# Altium schematic symbol library PowerSupply.SCHLIB: 15 symbols
Pins are listed as number, name and electrical type; pins without a type are passive.

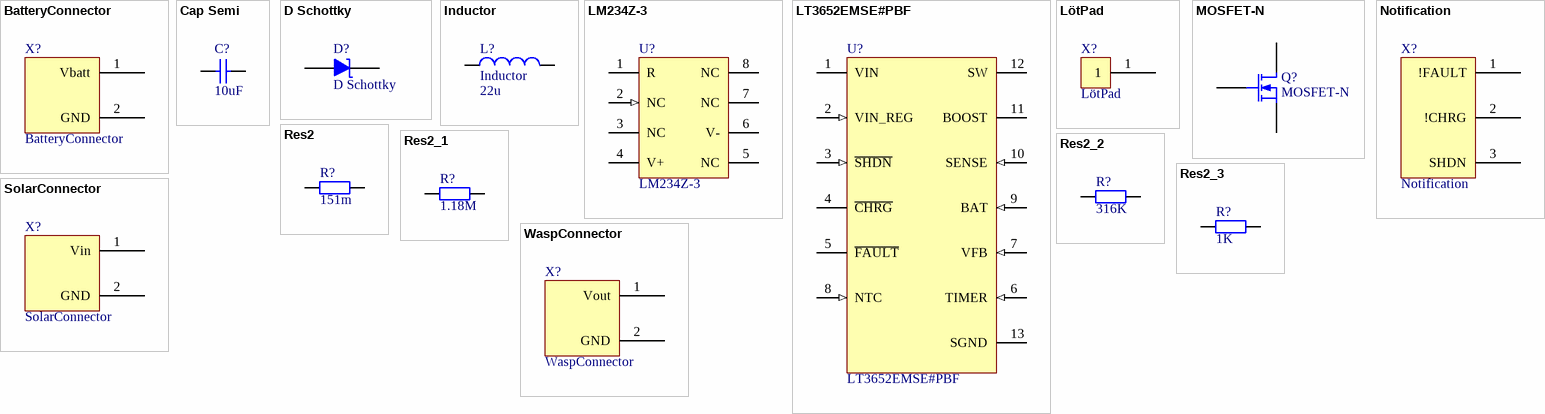
[diagram p0: symbols BatteryConnector to WaspConnector]

## BatteryConnector
designator X?
Connector; Supplier 1: Farnell; Supplier 2: Digi-Key; Supplier Part Number 1: 3705262, 3705535; Supplier Part Number 2: 277-1062-ND, 277-1150-ND
footprint Battery_Connector
pins: 1 Vbatt, 2 GND

## Cap Semi
designator C?, comment 10uF
Capacitor; Published: 8-Jun-2000; LatestRevisionDate: 29-May-2009; LatestRevisionNote: IPC-7351 Footprint Added.; PackageReference: C1206; Publisher: Altium Limited; PackageDescription: Chip Capacitor; Value: 10uF; Supplier 1: Farnell; Supplier 2: Digi-Key; Supplier Part Number 1: 1828859; Supplier Part Number 2: 490-1891-1-ND
footprint C1206 (Chip Capacitor, Body 3.2x1.6mm, IPC High Density)
footprint 0402 (Chip Capacitor, Body 1.0x0.5mm, IPC High Density)
footprint C2512 (Chip Capacitor, Body 2.54x1.27mm, IPC High Density)
footprint 1608[0603] (Chip Capacitor, Body 1.6x0.8mm, IPC High Density)
footprint C1210 (Chip Capacitor, Body 3.2x2.5mm, IPC High Density)
simulation model CAP (Semiconductor Capacitor)
signal-integrity model Cap Semi
pins: 1, 2

## D Schottky
designator D?
Schottky Diode; Published: 8-Jun-2000; LatestRevisionDate: 17-Jul-2002; LatestRevisionNote: Re-released for DXP Platform.; PackageReference: SMB; Publisher: Altium Limited; PackageDescription: DO-214-AA/SMB; 2 C-Bend Leads; Body 5.3 x 3.6 mm, inc. leads (LxW); Code_JEDEC: DO-214-AA; Supplier Part Number 2: B340LB-FDICT-ND; Supplier 2: Digi-Key; Supplier Part Number 1: 1843684; Supplier 1: Farnell
footprint SMB (DO-214-AA/SMB; 2 C-Bend Leads; Body 5.3 x 3.6 mm, inc. leads (LxW))
simulation model SKYDIODE (Diode)
signal-integrity model D Schottky
pins: 1 A, 2 K

## Inductor
designator L?  value 22u
Supplier 1: Farnell; Supplier 2: Digi-Key; Supplier Part Number 2: 478-7123-1-ND; Supplier Part Number 1: 2373880
footprint 0402-A (Chip Inductor, Body 1.0x0.5mm, IPC High Density)
footprint INDC1608L (Chip Inductor, Body 1.6x0.8mm, IPC High Density)
footprint 2029 (Chip Inductor, Body 2.0x1.2mm, IPC High Density)
footprint 0603 (Chip Inductor, Body 0.6x0.3mm, IPC High Density)
footprint INDC3216 (Chip Inductor, Body 3.2x1.6mm, IPC High Density)
footprint INDC4532 (Chip Inductor, Body 4.5x3.2mm, IPC High Density)
simulation model INDUCTOR (Inductor)
signal-integrity model Inductor
footprint LMX131J
pins: 1, 2

## LM234Z-3
designator U?
3-Terminal Adjustable Current Source, 3-pin TO-92; Manufacturer: National Semiconductor; PackageTopMarking: NSXYTT*LM234*Z-3; PowerWise: N; CompType: MiscPower; High-Reliability: Y; DatasheetVersion: Mar-2005; PackageVersion: revG, Sep-2000; PackageReference: Z03A; PackageDescription: TO-92, Molded, 3 Lead; PartNumber: LM234Z-3; RoHS: N; PinCount: 3; Code_JEDEC: TO-226-AA; ComponentLink1Description: Manufacturer URL; ComponentLink1URL: http://www.national.com/; ComponentLink2Description: LM234 Datasheet; ComponentLink2URL: http://www.national.com/ds/LM/LM234.pdf; ComponentLink3Description: LM234 Web Page; ComponentLink3URL: http://www.national.com/pf/LM/LM234.html; ComponentLink4Description: Z03A Package Page; ComponentLink4URL: http://www.national.com/packaging/folders/z03a.html; Supplier part Number 1: 1467822; Supplier 1: Farnell; Supplier 2: Digikey; Supplier Part Number 2: 497-1549-2-ND; Value: LM234Z-3
footprint Z03A (TO, Flat Index; 3 In-Line, Axial Leads; Body Dia. 5mm; Leads 0.55 x 0.50 mm (max))
footprint SO-8
pins: 1 R, 2 NC (in), 3 NC, 4 V+, 5 NC, 6 V-, 7 NC, 8 NC

## LT3652EMSE#PBF
designator U?
Battery Charger for Solar Power; Manufacturer: Linear Technology; Number of Outputs: 1; Vin Max(V): 32; Vin Min(V): 4.95; DatasheetVersion: Rev. D; PackageVersion: Rev. G, 05/2013; PackageReference: MSE-12-EDP; PackageDescription: 12-Pin Plastic MSOP, Exposed Die Pad, Body 4.039 x 3 mm, Pitch 0.65 mm; Supplier 1: Farnell; Supplier Part Number 1: 1839126; Supplier 2: Digi-Key; Supplier Part Number 2: LT3652EMSE#PBF-ND; Energy Source: Solar; RoHS: TRUE; Topology: Battery Charger; Mounting Technology: Surface Mount; PartNumber: LT3652EMSE#PBF; ComponentLink1Description: Manufacturer URL; ComponentLink1URL: http://www.linear.com/; ComponentLink2Description: Datasheet; ComponentLink2URL: http://cds.linear.com/docs/en/datasheet/3652fd.pdf; ComponentLink3Description: Package Specification; ComponentLink3URL: http://cds.linear.com/docs/en/packaging/05081666_G_MSE12.pdf; Value: LT3652EMSE#PBF
footprint LT-MSE-12-EDP_N (SOP, 12-Leads, Body 4.1x3.1mm, Pitch 0.65mm, Thermal Pad 2.95x1.76mm, IPC Medium Density)
footprint LT-MSE-12-EDP_L (SOP, 12-Leads, Body 4.1x3.1mm, Pitch 0.65mm, Thermal Pad 2.95x1.76mm, IPC High Density)
footprint LT-MSE-12-EDP_M (SOP, 12-Leads, Body 4.1x3.1mm, Pitch 0.65mm, Thermal Pad 2.95x1.76mm, IPC Low Density)
pins: 1 VIN (power) "Charger Input Supply. VIN operating range is 4.95V to 32V. VIN must be 3.3V greater than the programmed output battery float voltage (VBAT(FLT)) for reliable start-up. (VIN - VBAT(FLT)) >= 0.75V is the minimum operating (See Datasheet)", 2 VIN_REG (in) "Input Voltage Regulation Reference. Maximum charge current is reduced when this pin is below 2.7V. Connecting a resistor divider from VIN to this pin enables programming of minimum operational VIN voltage. This is typically (See Datasheet)", 3 ~{SHDN} (in) "Precision Threshold Shutdown Pin. The enable threshold is 1.2V (rising), with 120mV of input hysteresis. When in shutdown mode, all charging functions are disabled. The precision threshold allows use of the S\H\D\N\ pin to (See Datasheet)", 4 ~{CHRG} (hiz) "Open-Collector Charger Status Output; typically pulled up through a resistor to a reference voltage. This status pin can be pulled up to voltages as high as VIN when disabled, and can sink currents up to 10mA when enabled. (See Datasheet)", 5 ~{FAULT} (hiz) "Open-Collector Charger Status Output; typically pulled up through a resistor to a reference voltage. This status pin can be pulled up to voltages as high as VIN when disabled, and can sink currents up to 10mA when enabled. (See Datasheet)", 6 TIMER (in) "End-Of-Cycle Timer Programming Pin. If a timer-based charge termination is desired, connect a capacitor from this pin to ground. Full charge end-of-cycle time (in hours) is programmed with this capacitor following the (See Datasheet)", 7 VFB (in) "Battery Float Voltage Feedback Reference. The charge function operates to achieve a final float voltage of 3.3V on this pin. Output battery float voltage (VBAT(FLT)) is programmed using a resistor divider. VBAT(FLT) can be (See Datasheet)", 8 NTC (in) "Battery Temperature Monitor Pin. This pin is the input to the NTC (Negative Temperature Coefficient) thermistor temperature monitoring circuit. This function is enabled by connecting a 10kohm, B = 3380 NTC thermistor from (See Datasheet)", 9 BAT (in) "Charger Output Monitor Pin. Connect a 10uF decoupling capacitance (CBAT) to ground. Depending on application requirements, larger value decoupling capacitors may be required. The charge function operates to achieve the (See Datasheet)", 10 SENSE (in) "Charge Current Sense Pin. Connect the inductor sense resistor (RSENSE) from the SENSE pin to the BAT pin. The voltage across this resistor sets the average charge current. The maximum charge current (ICHG(MAX)) corresponds (See Datasheet)", 11 BOOST (power) "Bootstrapped Supply Rail for Switch Drive. This pin facilitates saturation of the switch transistor. Connect a 1uF or greater capacitor from the BOOST pin to the SW pin. Operating range of this pin is 0V to 8.5V, referenced (See Datasheet)", 12 SW (power) "Switch Output Pin. This pin is the output of the charger switch, and corresponds to the emitter of the switch transistor. When enabled, the switch shorts the SW pin to the VIN supply. The drive circuitry for this switch is (See Datasheet)", 13 SGND (power) "Ground Reference and Backside Exposed Lead Frame Thermal Connection. Solder the exposed lead frame to the PCB ground plane."

## LötPad
designator X?
PAD
footprint LötPad
footprint LötPad
pins: 1

## MOSFET-N
designator Q?
N-Channel MOSFET; Published: 8-Jun-2000; LatestRevisionDate: 17-Jul-2002; LatestRevisionNote: Re-released for DXP Platform.; PackageVersion: 1995/1996; PackageReference: E3; Publisher: Altium Limited; PackageDescription: TO, Flat Index; 3 In-Line, Axial Leads; Body Dia. 4.6mm; Lead Dia. 0.5 mm (max); Supplier Part Number 2: FDV301NCT-ND; Supplier 2: Digi-Key; Supplier 1: Farnell; Supplier Part Number 1: 9845011
footprint E3 (TO, Flat Index; 3 In-Line, Axial Leads; Body Dia. 4.6mm; Lead Dia. 0.5 mm (max))
simulation model NMOS (MOSFET-N)
footprint Sot-23
pins: 1 D, 2 G, 3 S

## Notification
designator X?
Connector; Supplier 1: Farnell; Supplier 2: Digi-Key; Supplier Part Number 1: 3705274, 3705456; Supplier Part Number 2: 277-1063-ND,277-1151-ND
footprint NOTIFICATION_CONNECTOR
pins: 1 !FAULT, 2 !CHRG, 3 SHDN

## Res2
designator R?, comment 151m
Resistor; Published: 8-Jun-2000; LatestRevisionDate: 17-Jul-2002; LatestRevisionNote: Re-released for DXP Platform.; PackageReference: AXIAL-0.4; Publisher: Altium Limited; PackageDescription: Axial Device, Thru-Hole; 2 Leads; 0.4 in Pin Spacing; Value: 151m; Supplier 2: Digi-Key; Supplier Part Number 2: WSLG-.151CT-ND
footprint AXIAL-0.4 (Axial Device, Thru-Hole; 2 Leads; 0.4 in Pin Spacing)
simulation model RESISTOR (Resistor)
signal-integrity model Res
footprint 0402 (Chip Inductor, Body 1.0x0.5mm, IPC High Density)
footprint Shunt
footprint 2510
pins: 1, 2

## Res2_1
designator R?, comment 1.18M
Resistor; Published: 8-Jun-2000; LatestRevisionDate: 17-Jul-2002; LatestRevisionNote: Re-released for DXP Platform.; PackageReference: AXIAL-0.4; Publisher: Altium Limited; PackageDescription: Axial Device, Thru-Hole; 2 Leads; 0.4 in Pin Spacing; Value: 1.18M; Supplier 1: Farnell; Supplier 2: Digi-Key; Supplier Part NUmber 2: 311-1.18MCRCT-ND; Supplier Part Number 1: 2316393
footprint AXIAL-0.4 (Axial Device, Thru-Hole; 2 Leads; 0.4 in Pin Spacing)
simulation model RESISTOR (Resistor)
signal-integrity model Res
footprint 0402-A (Chip Inductor, Body 1.0x0.5mm, IPC High Density)
footprint 0402 (Chip Inductor, Body 1.0x0.5mm, IPC High Density)
pins: 1, 2

## Res2_2
designator R?, comment 316K
Resistor; Published: 8-Jun-2000; LatestRevisionDate: 17-Jul-2002; LatestRevisionNote: Re-released for DXP Platform.; PackageReference: AXIAL-0.4; Publisher: Altium Limited; PackageDescription: Axial Device, Thru-Hole; 2 Leads; 0.4 in Pin Spacing; Value: 316K; Supplier 2: Digi-Key; Supplier Part Number 2: 311-316KHRCT-ND; Supplier 1: Farnell; Supplier Part Number 1: 2303268
footprint AXIAL-0.4 (Axial Device, Thru-Hole; 2 Leads; 0.4 in Pin Spacing)
simulation model RESISTOR (Resistor)
signal-integrity model Res
footprint 0402-A (Chip Inductor, Body 1.0x0.5mm, IPC High Density)
footprint 0402 (Chip Inductor, Body 1.0x0.5mm, IPC High Density)
footprint 0603
pins: 1, 2

## Res2_3
designator R?, comment 1K
Resistor; Published: 8-Jun-2000; LatestRevisionDate: 17-Jul-2002; LatestRevisionNote: Re-released for DXP Platform.; PackageReference: AXIAL-0.4; Publisher: Altium Limited; PackageDescription: Axial Device, Thru-Hole; 2 Leads; 0.4 in Pin Spacing; Value: 1K
footprint AXIAL-0.4 (Axial Device, Thru-Hole; 2 Leads; 0.4 in Pin Spacing)
simulation model RESISTOR (Resistor)
signal-integrity model Res
footprint 0402-A (Chip Inductor, Body 1.0x0.5mm, IPC High Density)
footprint 0402 (Chip Inductor, Body 1.0x0.5mm, IPC High Density)
footprint 0603
footprint 0603
pins: 1, 2

## SolarConnector
designator X?
Connector; Supplier Part Number 1: 3705262, 3705535; Supplier Part Number 2: 277-1062-ND, 277-1150-ND; Supplier 1: Farnell; Supplier 2: Digi-Key
footprint Solar_Connector
pins: 1 Vin, 2 GND

## WaspConnector
designator X?
Connector; Supplier 1: Farnell; Supplier Part Number 1: 3705262, 3705535; Supplier 2: Digi-Key; Supplier Part Number 2: 277-1062-ND, 277-1150-ND
footprint Wasp_Connector
footprint Wasp_Connector
pins: 1 Vout, 2 GND